# Altium schematic symbol library TPD4E05U06DQAR.Schlib: 1 symbol
Pins are listed as number, name and electrical type; pins without a type are passive.

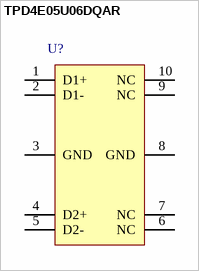
[diagram p0: symbol TPD4E05U06DQAR]

## TPD4E05U06DQAR
designator U?
pins: 1 D1+, 2 D1-, 3 GND (power), 4 D2+, 5 D2-, 6 NC, 7 NC, 8 GND (power), 9 NC, 10 NC